# EAGLE library part DA203X-AL (library RoboJackets-Inductors)
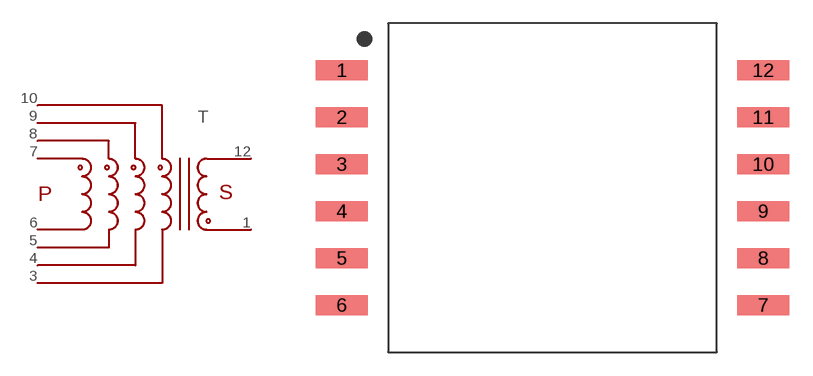
[diagram p0: symbol with the pads of DA2034; footprint DA2034]

Designator prefix T

## DA203X-ALDA2034  [DA2034]
1  1
3  3
4  4
5  5
6  6
7  7
8  8
9  9
10  10
12  12

## Footprint DA2034 (pad centres in mm)
smd 3.3 x 1.27: 1 -13.46,7.5; 2 -13.46,4.5; 3 -13.46,1.5; 4 -13.46,-1.5; 5 -13.46,-4.5; 6 -13.46,-7.5; 7 13.46,-7.5; 8 13.46,-4.5; 9 13.46,-1.5; 10 13.46,1.5; 11 13.46,4.5; 12 13.46,7.5